# Altium footprint library Resistors.PcbLib: 35 footprints (part 1 of 3)
Each footprint in its own frame and in the unit in brackets; x right, y up, seen from the top. Pads: shape width x height; smd on the part's side, far side on the other; paste and mask are expansions set on the pad; w line width, h text height; cw(c..) or ccw(c..) is an arc to the next point about the centre after c.
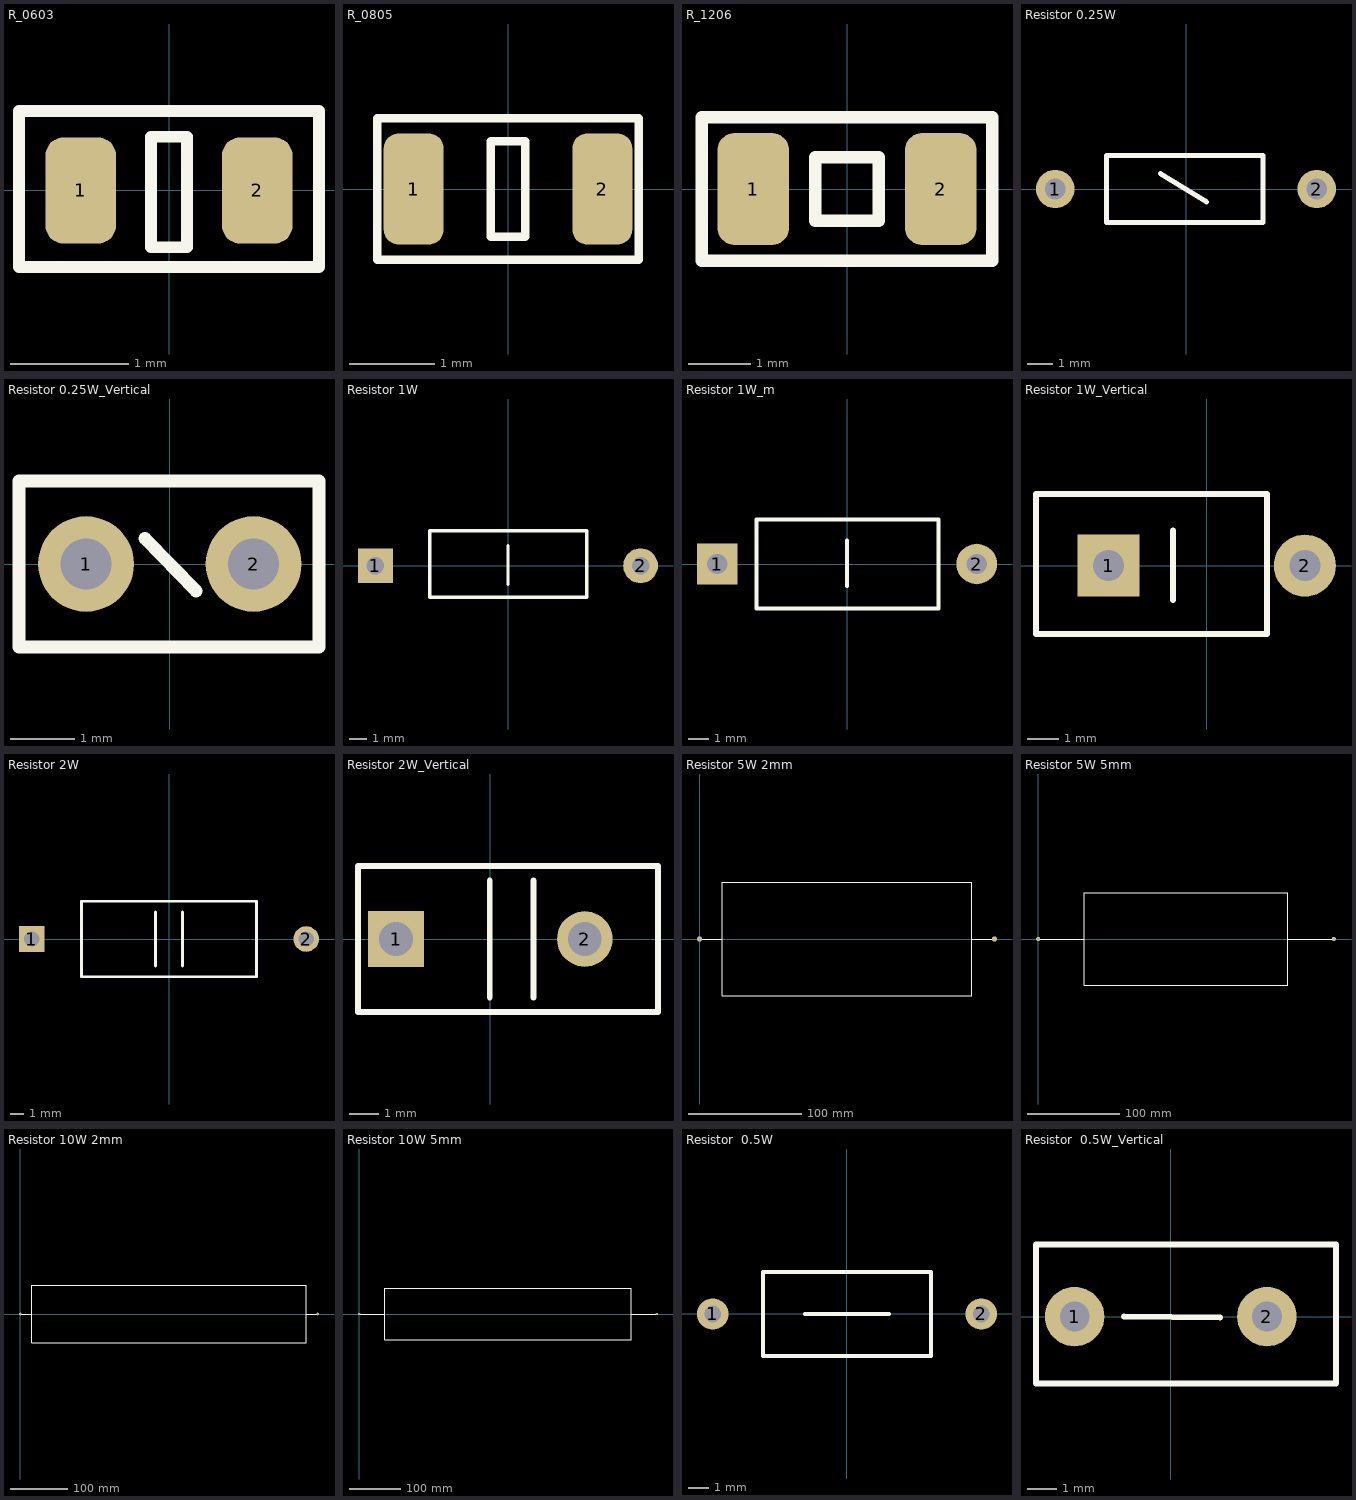
[diagram p0: the footprints below, top view; thin cyan lines are the x and y axes]

## R_0603 [mm]
height 0.508
pads (2):
  rrect50% 0.6x0.9 smd: 1(-0.75,0) 2(0.75,0)
Top Overlay:
  lines w0.1: -1.275,-0.65 -1.275,0.675 1.275,0.675 1.275,-0.65 -1.275,-0.65 ; -0.152,-0.483 0.152,-0.483 0.152,0.457 -0.152,0.457 -0.152,-0.483
3D body "Resistor_0603.STEP": height 0.45, standoff 0, extent -0.8,-0.41 0.8,0.41

## R_0805 [mm] "Resistor Pattern"
height 1.27
pads (2):
  rrect50% 0.7x1.3 smd: 1(-1.1,0) 2(1.1,0)
Top Overlay:
  lines w0.1: -1.525,-0.825 1.525,-0.825 1.525,0.825 -1.525,0.825 -1.525,-0.825 ; -0.203,-0.559 0.203,-0.559 0.203,0.559 -0.203,0.559 -0.203,-0.559
3D body "Resistor_0805.STEP": height 0.76, standoff 0, extent -1.15,-0.675 1.15,0.675

## R_1206 [mm]
height 1.524
pads (2):
  rrect50% 1.15x1.8 smd: 1(-1.5,0) 2(1.5,0)
Top Overlay:
  lines w0.2: -2.325,-1.15 -2.325,1.15 2.325,1.15 2.325,-1.15 -2.325,-1.15 ; -0.508,-0.508 -0.508,0.508 0.508,0.508 0.508,-0.508 -0.508,-0.508
3D body "Resistor_1206.STEP": height 0.85, standoff 0, extent -1.675,-0.865 1.675,0.865

## Resistor 0.25W [mm]
pads (2):
  round 1.5 hole 0.8: 1(-5.1,0) 2(5.1,0)
Top Overlay:
  lines w0.2: -1,0.6 0.8,-0.5 ; -3.1,-1.3 -3.1,1.3 3,1.3 3,-1.3 -3.1,-1.3
3D body "Resistor_0.25W.STEP": height 2.41, standoff -2, extent -5.38,-1.2 5.38,1.2

## Resistor 0.25W_Vertical [mm]
pads (2):
  round 1.5 hole 0.8: 1(-1.312,0) 2(1.313,0)
Top Overlay:
  lines w0.2: -0.387,0.4 0.413,-0.425 ; -2.362,-1.3 -2.362,1.3 2.338,1.3 2.338,-1.3 -2.362,-1.3
3D body "Resistor_0.25W_Vertical.STEP": height 7.25, standoff -1.5, extent -1.544,-0.925 2.169,0.916

## Resistor 1W [mm]
height 9
pads (2):
  rect 2x2 hole 1: 1(-7.6,0)
  round 2 hole 1: 2(7.6,0)
Top Overlay:
  lines w0.2: 0,-1.075 0,1.15 ; -4.475,-1.8 -4.475,2 4.525,2 4.525,-1.8 -4.475,-1.8
3D body "Resistor_1W.STEP": height 4.12, standoff -3.1, extent -7.975,-1.8 7.955,1.95

## Resistor 1W_m [mm]
height 9
pads (2):
  rect 2x2 hole 1: 1(-6.4,0)
  round 2 hole 1: 2(6.4,0)
Top Overlay:
  lines w0.2: 0,-1.075 0,1.15 ; -4.475,-2.2 4.525,-2.2 4.525,2.2 -4.475,2.2 -4.475,-2.2
3D body "Resistor_1W_m.STEP": height 4.52, standoff -2, extent -6.725,-2.25 6.725,2.25

## Resistor 1W_Vertical [mm] "Резистор - 1 Вт  постоянный, проволочный прецизионный. D=9mm,  L=19mm, l=20mm - вывод"
height 9
pads (2):
  rect 2x2 hole 1: 1(-3.162,0)
  round 2 hole 1: 2(3.163,0)
Top Overlay:
  lines w0.2: -1.087,-1.1 -1.087,1.125 ; -5.5,-2.2 1.938,-2.2 1.938,2.3 -5.5,2.3 -5.5,-2.2
3D body "Resistor_1W_Vertical.STEP": height 15.15, standoff -3, extent -5.462,-2.199 3.536,2.298

## Resistor 2W [mm]
height 11
pads (2):
  rect 1.9x1.9 hole 1.15: 1(-10.2,0)
  round 1.9 hole 1.15: 2(10.2,0)
Top Overlay:
  lines w0.2: -1,-2 -1,2 ; 1,-2 1,2 ; -6.5,-2.8 6.5,-2.8 6.5,2.8 -6.5,2.8 -6.5,-2.8
3D body "Resistor_2W.STEP": height 5.57, standoff -1.7, extent -10.565,-2.738 10.565,2.738

## Resistor 2W_Vertical [mm]
height 11
pads (2):
  rect 1.9x1.9 hole 1.15: 1(-3.225,0)
  round 1.9 hole 1.15: 2(3.225,0)
Top Overlay:
  lines w0.2: -0.025,-2 -0.025,2 ; 1.475,-2 1.475,2 ; -4.525,-2.5 5.725,-2.5 5.725,2.5 -4.525,2.5 -4.525,-2.5
3D body "Resistor_2W_Vertical.STEP": height 19.35, standoff -3, extent -3.6,-2.499 5.647,2.503

## Resistor 5W 2mm [mm]
pads (2):
  round 4.524 hole 0.5: 1(0,0) 2(260,0)
Top Overlay:
  lines w1: 0,0 20,0 ; 240,0 260,0 ; 20,0 20,-50 240,-50 240,50 20,50 20,0

## Resistor 5W 5mm [mm]
pads (2):
  round 4.524 hole 0.5: 1(0,0) 2(320,0)
Top Overlay:
  lines w1: 0,0 50,0 50,50 270,50 270,-50 50,-50 50,1 ; 270,0 320,0

## Resistor 10W 2mm [mm]
pads (2):
  round 4.524 hole 0.5: 1(0,0) 2(520,0)
Top Overlay:
  lines w1: 0,0 20,0 ; 520,0 500,0 ; 500,0 500,-50 20,-50 20,50 500,50 500,0

## Resistor 10W 5mm [mm]
pads (2):
  round 4.524 hole 0.5: 1(0,0) 2(580,0)
Top Overlay:
  lines w1: 0,0 50,0 ; 580,0 530,0 ; 530,0 530,-50 506,-50 50,-50 50,50 530,50 530,0

## Resistor  0.5W [mm]
pads (2):
  round 1.5 hole 0.8: 1(-6.4,0) 2(6.4,0)
Top Overlay:
  lines w0.2: -2,0 2,0 ; -4,-2 -4,2 4,2 4,-2 -4,-2
3D body "Resistor_0.5W.STEP": height 5.38, standoff -4, extent -6.725,-1.875 6.725,1.875

## Resistor  0.5W_Vertical [mm]
pads (2):
  round 2 hole 1: 1(-3.237,0) 2(3.238,0)
Top Overlay:
  lines w0.2: -1.575,0 1.65,-0.025 ; -4.537,-2.25 5.563,-2.25 5.563,2.425 -4.537,2.425 -4.537,-2.25
3D body "Resistor_1W_Vertical.STEP": height 15.15, standoff -3, extent -3.599,-2.15 5.399,2.347